# Altium schematic symbol library 220pfBig.SchLib: 1 symbol
Pins are listed as number, name and electrical type; pins without a type are passive.

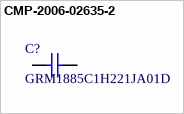
[diagram p0: symbol CMP-2006-02635-2]

## CMP-2006-02635-2
designator C?, comment GRM1885C1H221JA01D
Chip Capacitor, 220 pF, +/- 5%, 50 V, -55 to 125 degC, 0603 (1608 Metric), RoHS, Tape and Reel; Voltage Rating: 50 V; Case\Package: 0603; Type (Capacitors): C0G; Capacitance: 220 pF; Case Code (Metric): 1608; Weight: 7.1E-05 oz; Tolerance: 5%; Mount: Surface Mount; Packaging: Tape and Reel; Voltage Rating (DC): 50 V; ComponentLink1Description: Manufacturer URL; Pins: 2; ComponentLink1URL: http://www.murata.com/; PackageReference: 0603; PackageDescription: 2-Pin Surface Mount Device, Body 1.6 x 0.8 mm; Width: 0.8 mm; Lead Pitch: 4 mm; Package Quantity: 4000; Length: 1.6 mm; RoHSCompliant: true; Radiation Hardening: No; Mounting Technology: Surface Mount; DatasheetVersion: 08/2016; ComponentLink2URL: http://psearch.en.murata.com/capacitor/product/GRM1885C1H221JA01%23.pdf; Min Operating Temperature: -55 degC; Max Operating Temperature: 125 degC; ComponentLink2Description: Datasheet; Height: 0.8 mm; REACH SVHC: No SVHC; Case Code (Imperial): 0603
footprint CAPC1608X90X35ML10T15 (Chip Capacitor, 2-Leads, Body 1.7x0.9mm, IPC Low Density)
footprint CAPC1608X90X35NL10T15 (Chip Capacitor, 2-Leads, Body 1.7x0.9mm, IPC Medium Density)
footprint CAPC1608X90X35LL10T15 (Chip Capacitor, 2-Leads, Body 1.7x0.9mm, IPC High Density)
pins: 1, 2